# Altium footprint library ECX-1247.PcbLib: 1 footprints
Each footprint in its own frame and in the unit in brackets; x right, y up, seen from the top. Pads: shape width x height; smd on the part's side, far side on the other; paste and mask are expansions set on the pad; w line width, h text height; cw(c..) or ccw(c..) is an arc to the next point about the centre after c.
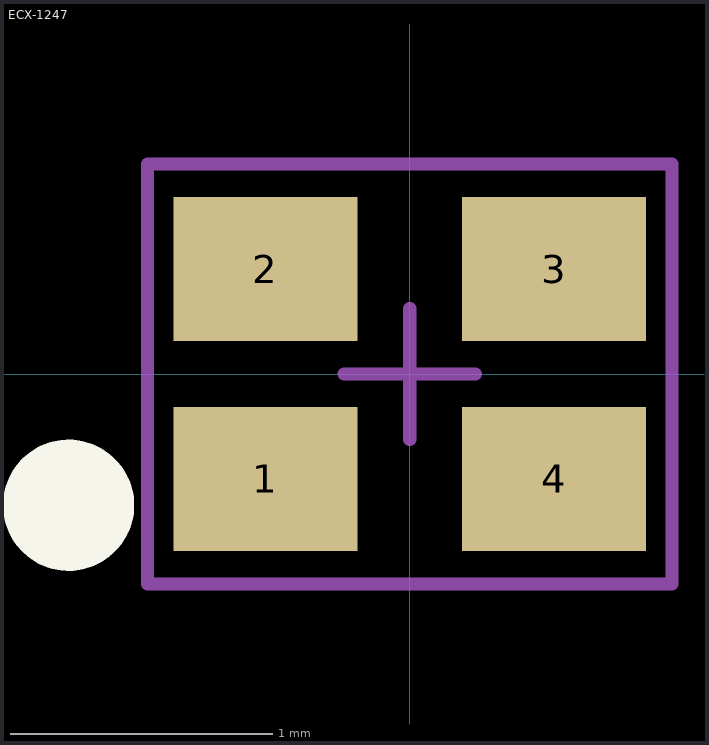
[diagram p0: the footprint, top view; thin cyan lines are the x and y axes]

## ECX-1247 [mm] "ECS Inc. Crystal"
pads (4):
  rect 0.7x0.55 smd mask+0.05: 1(-0.55,-0.4) 2(-0.55,0.4) 3(0.55,0.4) 4(0.55,-0.4)
Top Overlay:
  circle w0.25: c-1.3,-0.5 r0.125
Mechanical 15 (Mech15):
  lines w0.05: -0.25,0 0.25,0 ; 0,-0.25 0,0.25 ; -1,-0.8 -1,0.8 1,0.8 1,-0.8 -1,-0.8
3D body "ECS-240-8-47-JTN-TR.STEP": height 0.35, standoff 0, extent -0.8,-0.6 0.8,0.6